# Altium footprint library Misc Connector Terminal.PcbLib: 1 footprints
Each footprint in its own frame and in the unit in brackets; x right, y up, seen from the top. Pads: shape width x height; smd on the part's side, far side on the other; paste and mask are expansions set on the pad; w line width, h text height; cw(c..) or ccw(c..) is an arc to the next point about the centre after c.
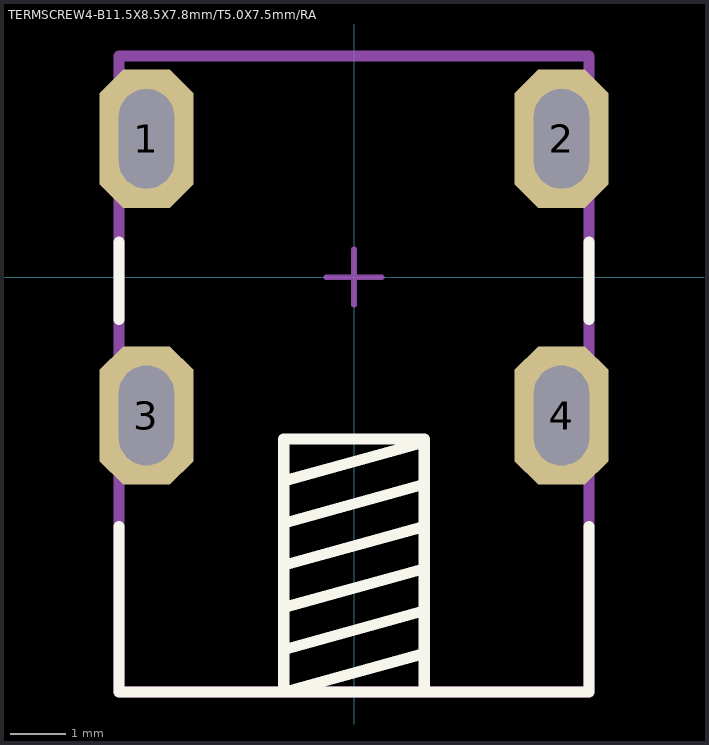
[diagram p0: the footprint, top view; thin cyan lines are the x and y axes]

## TERMSCREW4-B11.5X8.5X7.8mm/T5.0X7.5mm/RA [mm] "Terminal Screw, 4-PIN, Body 11.5mm(L) * 8.5mm(W) * 7.8mm(H), Thru Hole, 5.0mm * 7.5mm Pitch, Right Angle"
height 7.8
pads (4):
  oct 1.7x2.5 hole 1 slot 1.8 at 90 deg: 1(-3.75,2.5) 2(3.75,2.5) 3(-3.75,-2.5) 4(3.75,-2.5)
Top Overlay:
  lines w0.2: -4.25,-4.504 -4.25,-7.5 4.25,-7.5 4.25,-4.504 ; -4.25,-0.762 -4.25,0.635 ; -1.27,-6.731 1.27,-6.031 ; -1.27,-5.969 1.27,-5.269 ; -1.27,-5.207 1.27,-4.507 ; -1.27,-4.445 1.27,-3.745 ; -1.27,-3.683 1.27,-2.983 ; 1.27,-7.5 1.27,-2.921 -1.27,-2.921 -1.27,-7.5 1.27,-6.8 ; 4.25,-0.762 4.25,0.635
Mechanical 13:
  lines w0.2: -4.25,-6.731 -4.25,-7.5 ; -4.25,-7.5 -4.25,4 4.25,4 4.25,-7.5 -4.25,-7.5
Mechanical 15:
  lines w0.1: -0.5,0 0.5,0 ; 0,-0.5 0,0.5
3D body: height 16, standoff 0, extent -4.25,-7.5 4.25,4